# Altium footprint library LED RGB APFA3011-AK13_F.PcbLib: 1 footprints
Each footprint in its own frame and in the unit in brackets; x right, y up, seen from the top. Pads: shape width x height; smd on the part's side, far side on the other; paste and mask are expansions set on the pad; w line width, h text height; cw(c..) or ccw(c..) is an arc to the next point about the centre after c.
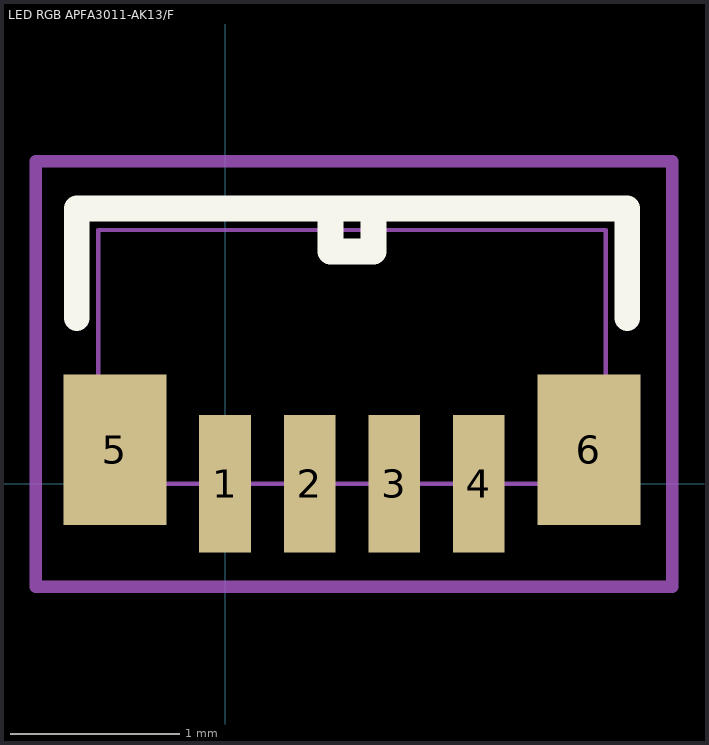
[diagram p0: the footprint, top view; thin cyan lines are the x and y axes]

## LED RGB APFA3011-AK13/F [mil]
pads (6):
  rect 12x32 smd paste+0 mask+0: 1(0,0) 2(19.69,0) 3(39.37,0) 4(59.06,0)
  rect 24x35 smd paste+0 mask+0: 5(-25.59,7.87) 6(84.65,7.87)
Top Overlay:
  lines w6: -34.47,38.47 -34.47,64 93.53,64 93.53,38.47 ; 24.53,54 34.53,54 34.53,64 24.53,64 24.53,54
Mechanical 13:
  lines w1: -29.47,0 88.53,0 88.53,59 -29.47,59 -29.47,0
Mechanical 15:
  lines w2.95: -44,-24 -44,75 104,75 104,-24 -44,-24
3D body "APFA3011.step": height -1069.18, standoff -1128.33, extent -121648.11,144801.08 -121530,144840.46
3D body "APFA3011.step": height -1069.18, standoff -1128.33, extent -121634.11,144798.08 -121516.01,144837.46
3D body "APFA3011.step": height -1069.18, standoff -1128.33, extent -121653.11,144791.08 -121535.01,144830.46
3D body "APFA3011.step": height -1069.18, standoff -1128.33, extent -121631.11,144735.09 -121513,144774.46
3D body "APFA3011.step": height -1069.18, standoff -1128.33, extent -121633.11,144737.08 -121515.01,144776.46
3D body "APFA3011.step": height -1069.18, standoff -1128.33, extent -121687.11,144792.08 -121569,144831.46
3D body "APFA3011.step": height -1069.18, standoff -1128.33, extent -121642.11,144736.08 -121524.01,144775.45
3D body "APFA3011.step": height -1069.18, standoff -1128.33, extent -121642.1,144736.08 -121524,144775.45
3D body "APFA3011.step": height -1069.18, standoff -1128.33, extent -121636.11,144735.09 -121518.01,144774.46
3D body "APFA3011.step": height -1069.18, standoff -1128.33, extent -121638.11,144734.08 -121520.01,144773.46
3D body "APFA3011.step": height -1069.18, standoff -1128.33, extent -121639.11,144737.08 -121521,144776.46
3D body "APFA3011.step": height -1069.18, standoff -1128.33, extent -121639.12,144737.08 -121521.01,144776.45
3D body "APFA3011.step": height -1069.18, standoff -1128.33, extent -121639.12,144737.08 -121521.01,144776.46
3D body "APFA3011.step": height -1069.18, standoff -1128.33, extent -121699.57,144769.08 -121581.47,144808.45
3D body "APFA3011.step": height -1069.18, standoff -1128.33, extent -121677.11,144799.08 -121559,144838.45
3D body "APFA3011.step": height -1069.18, standoff -1128.33, extent -121671.11,144741.09 -121553.01,144780.46
3D body "APFA3011.step": height -1069.18, standoff -1128.33, extent -121670.11,144710.08 -121552.01,144749.46
3D body: height 39.37, standoff 0, extent -39,-19 99.01,69
3D body "APFA3011.sldprt": height -1069.18, standoff -1128.33, extent -121694.11,144801.08 -121576,144840.45
3D body "APFA3011.sldprt": height -1069.18, standoff -1128.33, extent -121701.11,144816.08 -121583,144855.46
3D body "APFA3011.sldprt": height -1069.18, standoff -1128.33, extent -121670.11,144753.08 -121552,144792.46
3D body "APFA3011.sldprt": height -1069.18, standoff -1128.33, extent -121695.11,144783.08 -121577,144822.46
3D body "APFA3011.sldprt": height -1069.18, standoff -1128.33, extent -121669.11,144708.08 -121551.01,144747.46
3D body "APFA3011.sldprt": height -1069.18, standoff -1128.33, extent -121654.11,144677.08 -121536,144716.46